# EAGLE library part PLL1707 (library ic-TI)
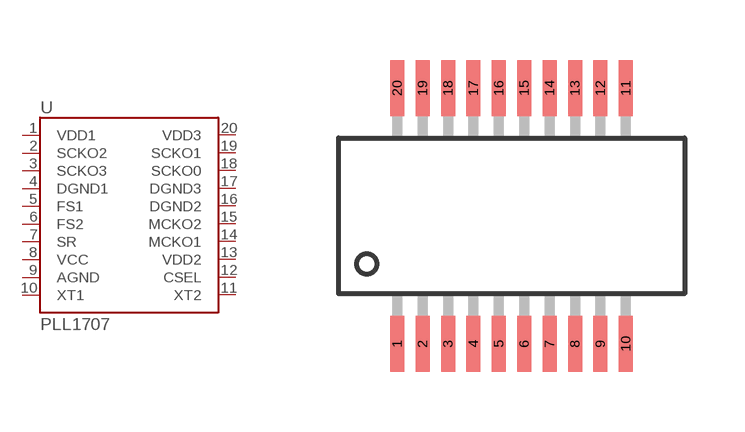
[diagram p16: symbol with the pads of SSOP20; footprint SSOP20]

Designator prefix U

## PLL1707  [SSOP20]
1  VDD1
2  SCKO2
3  SCKO3
4  DGND1
5  FS1
6  FS2
7  SR
8  VCC
9  AGND
10  XT1
11  XT2
12  CSEL
13  VDD2
14  MCKO1
15  MCKO2
16  DGND2
17  DGND3
18  SCKO0
19  SCKO1
20  VDD3

## Footprint SSOP20 (pad centres in mm)
smd 0.35 x 1.4: 1 -2.857,-3.2; 2 -2.223,-3.2; 3 -1.587,-3.2; 4 -0.953,-3.2; 5 -0.318,-3.2; 6 0.318,-3.2; 7 0.953,-3.2; 8 1.587,-3.2; 9 2.223,-3.2; 10 2.857,-3.2; 11 2.857,3.2; 12 2.223,3.2; 13 1.587,3.2; 14 0.953,3.2; 15 0.318,3.2; 16 -0.318,3.2; 17 -0.953,3.2; 18 -1.587,3.2; 19 -2.223,3.2; 20 -2.857,3.2